# EAGLE library part TMUX1208PWR (library Birdhouse)
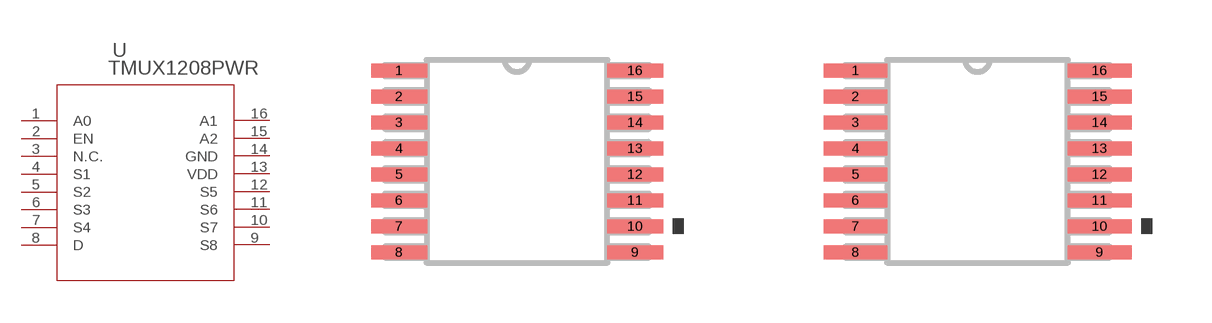
[diagram p11: symbol with the pads of PW_16_TEX; footprints PW_16_TEX, PW_16_TEX-M]

Designator prefix U

## TMUX1208PWR (COPYRIGHT: Copyright (C) 2023 Ultra Librarian. All rights reserved.; DIGI-KEY_PART_NUMBER_1: 296-51847-1-ND; DIGI-KEY_PART_NUMBER_2: 296-51847-2-ND; DIGI-KEY_PART_NUMBER_3: 296-51847-6-ND; MANUFACTURER_PART_NUMBER: TMUX1208PWR; MFR_NAME: Texas Instruments)  [PW_16_TEX]
1  A0
2  EN  pas
3  N.C.  nc
4  S1
5  S2
6  S3
7  S4
8  D  pas
9  S8
10  S7
11  S6
12  S5
13  VDD  pwr
14  GND  pas
15  A2
16  A1

## TMUX1208PWRPW_16_TEX-M (COPYRIGHT: Copyright (C) 2023 Ultra Librarian. All rights reserved.; DIGI-KEY_PART_NUMBER_1: 296-51847-1-ND; DIGI-KEY_PART_NUMBER_2: 296-51847-2-ND; DIGI-KEY_PART_NUMBER_3: 296-51847-6-ND; MANUFACTURER_PART_NUMBER: TMUX1208PWR; MFR_NAME: Texas Instruments)  [PW_16_TEX-M]
Pads as for PW_16_TEX

## TMUX1208PWRPW_16_TEX-L (COPYRIGHT: Copyright (C) 2023 Ultra Librarian. All rights reserved.; DIGI-KEY_PART_NUMBER_1: 296-51847-1-ND; DIGI-KEY_PART_NUMBER_2: 296-51847-2-ND; DIGI-KEY_PART_NUMBER_3: 296-51847-6-ND; MANUFACTURER_PART_NUMBER: TMUX1208PWR; MFR_NAME: Texas Instruments)  [PW_16_TEX-L]
Pads as for PW_16_TEX

## Footprint PW_16_TEX (pad centres in mm)
smd 1.4 x 0.35: 1 -2.95,2.275; 2 -2.95,1.625; 3 -2.95,0.975; 4 -2.95,0.325; 5 -2.95,-0.325; 6 -2.95,-0.975; 7 -2.95,-1.625; 8 -2.95,-2.275; 9 2.95,-2.275; 10 2.95,-1.625; 11 2.95,-0.975; 12 2.95,-0.325; 13 2.95,0.325; 14 2.95,0.975; 15 2.95,1.625; 16 2.95,2.275

## Footprint PW_16_TEX-M (pad centres in mm)
smd 1.6 x 0.35: 1 -3.05,2.275; 2 -3.05,1.625; 3 -3.05,0.975; 4 -3.05,0.325; 5 -3.05,-0.325; 6 -3.05,-0.975; 7 -3.05,-1.625; 8 -3.05,-2.275; 9 3.05,-2.275; 10 3.05,-1.625; 11 3.05,-0.975; 12 3.05,-0.325; 13 3.05,0.325; 14 3.05,0.975; 15 3.05,1.625; 16 3.05,2.275

## Footprint PW_16_TEX-L (pad centres in mm)
smd 1.15 x 0.3: 1 -2.875,2.275; 2 -2.875,1.625; 3 -2.875,0.975; 4 -2.875,0.325; 5 -2.875,-0.325; 6 -2.875,-0.975; 7 -2.875,-1.625; 8 -2.875,-2.275; 9 2.875,-2.275; 10 2.875,-1.625; 11 2.875,-0.975; 12 2.875,-0.325; 13 2.875,0.325; 14 2.875,0.975; 15 2.875,1.625; 16 2.875,2.275